# Altium schematic symbol library Nuvoton_NUC200_220 Series.SchLib: 14 symbols
Pins are listed as number, name and electrical type; pins without a type are passive.

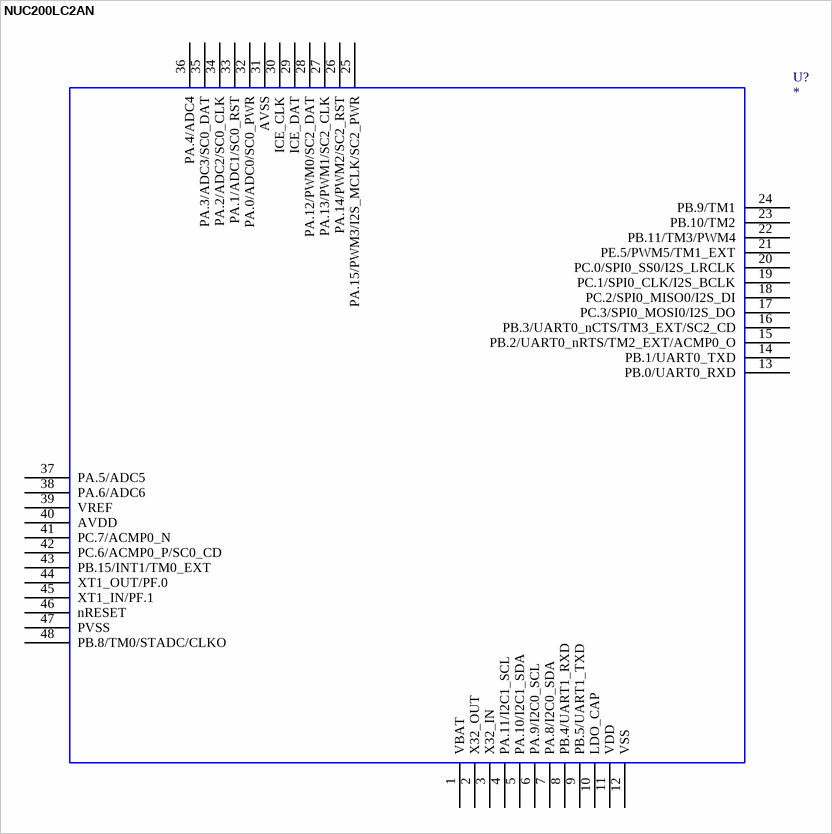
[diagram p0: symbol NUC200LC2AN]

## NUC200LC2AN
designator U?
NUC200LC2AN; OriginalSymbolOrigin: *; NUC200LC2AN: *; Value: *
footprint __MCU_LQFP_48__
pins: 1 VBAT, 2 X32_OUT, 3 X32_IN, 4 PA.11/I2C1_SCL, 5 PA.10/I2C1_SDA, 6 PA.9/I2C0_SCL, 7 PA.8/I2C0_SDA, 8 PB.4/UART1_RXD, 9 PB.5/UART1_TXD, 10 LDO_CAP, 11 VDD, 12 VSS, 13 PB.0/UART0_RXD, 14 PB.1/UART0_TXD, 15 PB.2/UART0_nRTS/TM2_EXT/ACMP0_O, 16 PB.3/UART0_nCTS/TM3_EXT/SC2_CD, 17 PC.3/SPI0_MOSI0/I2S_DO, 18 PC.2/SPI0_MISO0/I2S_DI, 19 PC.1/SPI0_CLK/I2S_BCLK, 20 PC.0/SPI0_SS0/I2S_LRCLK, 21 PE.5/PWM5/TM1_EXT, 22 PB.11/TM3/PWM4, 23 PB.10/TM2, 24 PB.9/TM1, 25 PA.15/PWM3/I2S_MCLK/SC2_PWR, 26 PA.14/PWM2/SC2_RST, 27 PA.13/PWM1/SC2_CLK, 28 PA.12/PWM0/SC2_DAT, 29 ICE_DAT, 30 ICE_CLK, 31 AVSS, 32 PA.0/ADC0/SC0_PWR, 33 PA.1/ADC1/SC0_RST, 34 PA.2/ADC2/SC0_CLK, 35 PA.3/ADC3/SC0_DAT, 36 PA.4/ADC4, 37 PA.5/ADC5, 38 PA.6/ADC6, 39 VREF, 40 AVDD, 41 PC.7/ACMP0_N, 42 PC.6/ACMP0_P/SC0_CD, 43 PB.15/INT1/TM0_EXT, 44 XT1_OUT/PF.0, 45 XT1_IN/PF.1, 46 nRESET, 47 PVSS, 48 PB.8/TM0/STADC/CLKO
2 alternate drawings of the same symbol

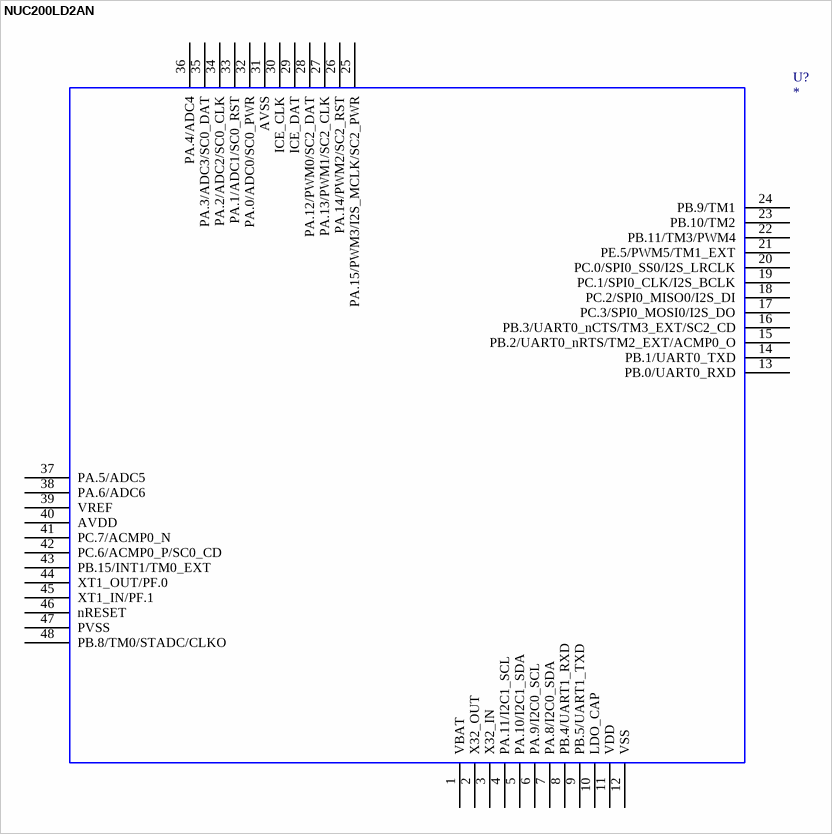
[diagram p1: symbol NUC200LD2AN]

## NUC200LD2AN
designator U?
NUC200LD2AN; OriginalSymbolOrigin: *; NUC200LD2AN: *; Value: *
footprint __MCU_LQFP_48__
pins: 1 VBAT, 2 X32_OUT, 3 X32_IN, 4 PA.11/I2C1_SCL, 5 PA.10/I2C1_SDA, 6 PA.9/I2C0_SCL, 7 PA.8/I2C0_SDA, 8 PB.4/UART1_RXD, 9 PB.5/UART1_TXD, 10 LDO_CAP, 11 VDD, 12 VSS, 13 PB.0/UART0_RXD, 14 PB.1/UART0_TXD, 15 PB.2/UART0_nRTS/TM2_EXT/ACMP0_O, 16 PB.3/UART0_nCTS/TM3_EXT/SC2_CD, 17 PC.3/SPI0_MOSI0/I2S_DO, 18 PC.2/SPI0_MISO0/I2S_DI, 19 PC.1/SPI0_CLK/I2S_BCLK, 20 PC.0/SPI0_SS0/I2S_LRCLK, 21 PE.5/PWM5/TM1_EXT, 22 PB.11/TM3/PWM4, 23 PB.10/TM2, 24 PB.9/TM1, 25 PA.15/PWM3/I2S_MCLK/SC2_PWR, 26 PA.14/PWM2/SC2_RST, 27 PA.13/PWM1/SC2_CLK, 28 PA.12/PWM0/SC2_DAT, 29 ICE_DAT, 30 ICE_CLK, 31 AVSS, 32 PA.0/ADC0/SC0_PWR, 33 PA.1/ADC1/SC0_RST, 34 PA.2/ADC2/SC0_CLK, 35 PA.3/ADC3/SC0_DAT, 36 PA.4/ADC4, 37 PA.5/ADC5, 38 PA.6/ADC6, 39 VREF, 40 AVDD, 41 PC.7/ACMP0_N, 42 PC.6/ACMP0_P/SC0_CD, 43 PB.15/INT1/TM0_EXT, 44 XT1_OUT/PF.0, 45 XT1_IN/PF.1, 46 nRESET, 47 PVSS, 48 PB.8/TM0/STADC/CLKO
2 alternate drawings of the same symbol

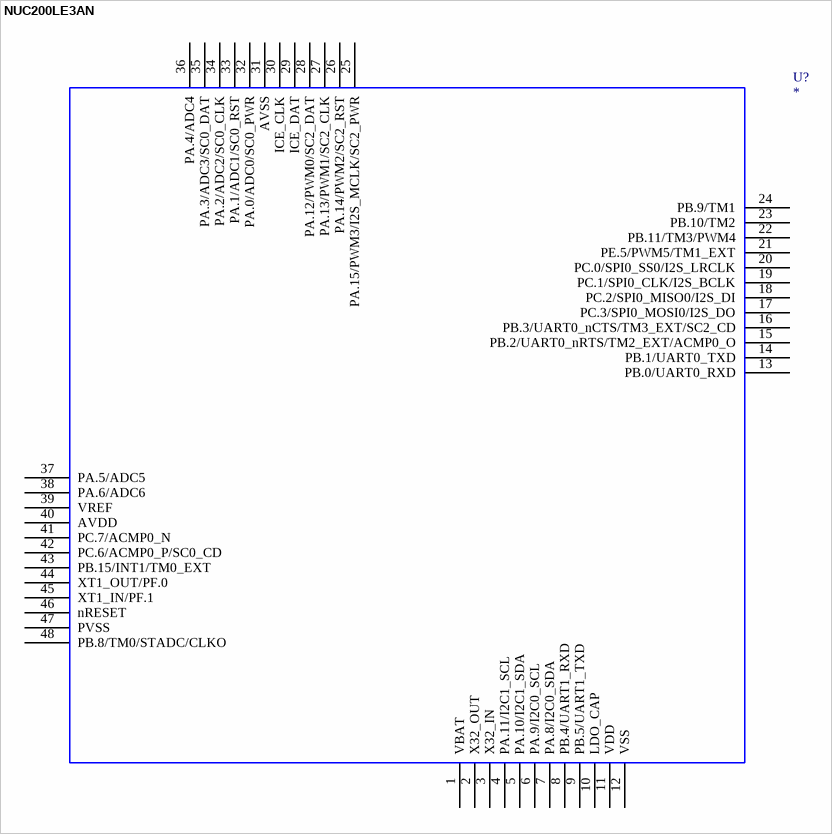
[diagram p2: symbol NUC200LE3AN]

## NUC200LE3AN
designator U?
NUC200LE3AN; OriginalSymbolOrigin: *; NUC200LE3AN: *; Value: *
footprint __MCU_LQFP_48__
pins: 1 VBAT, 2 X32_OUT, 3 X32_IN, 4 PA.11/I2C1_SCL, 5 PA.10/I2C1_SDA, 6 PA.9/I2C0_SCL, 7 PA.8/I2C0_SDA, 8 PB.4/UART1_RXD, 9 PB.5/UART1_TXD, 10 LDO_CAP, 11 VDD, 12 VSS, 13 PB.0/UART0_RXD, 14 PB.1/UART0_TXD, 15 PB.2/UART0_nRTS/TM2_EXT/ACMP0_O, 16 PB.3/UART0_nCTS/TM3_EXT/SC2_CD, 17 PC.3/SPI0_MOSI0/I2S_DO, 18 PC.2/SPI0_MISO0/I2S_DI, 19 PC.1/SPI0_CLK/I2S_BCLK, 20 PC.0/SPI0_SS0/I2S_LRCLK, 21 PE.5/PWM5/TM1_EXT, 22 PB.11/TM3/PWM4, 23 PB.10/TM2, 24 PB.9/TM1, 25 PA.15/PWM3/I2S_MCLK/SC2_PWR, 26 PA.14/PWM2/SC2_RST, 27 PA.13/PWM1/SC2_CLK, 28 PA.12/PWM0/SC2_DAT, 29 ICE_DAT, 30 ICE_CLK, 31 AVSS, 32 PA.0/ADC0/SC0_PWR, 33 PA.1/ADC1/SC0_RST, 34 PA.2/ADC2/SC0_CLK, 35 PA.3/ADC3/SC0_DAT, 36 PA.4/ADC4, 37 PA.5/ADC5, 38 PA.6/ADC6, 39 VREF, 40 AVDD, 41 PC.7/ACMP0_N, 42 PC.6/ACMP0_P/SC0_CD, 43 PB.15/INT1/TM0_EXT, 44 XT1_OUT/PF.0, 45 XT1_IN/PF.1, 46 nRESET, 47 PVSS, 48 PB.8/TM0/STADC/CLKO
2 alternate drawings of the same symbol

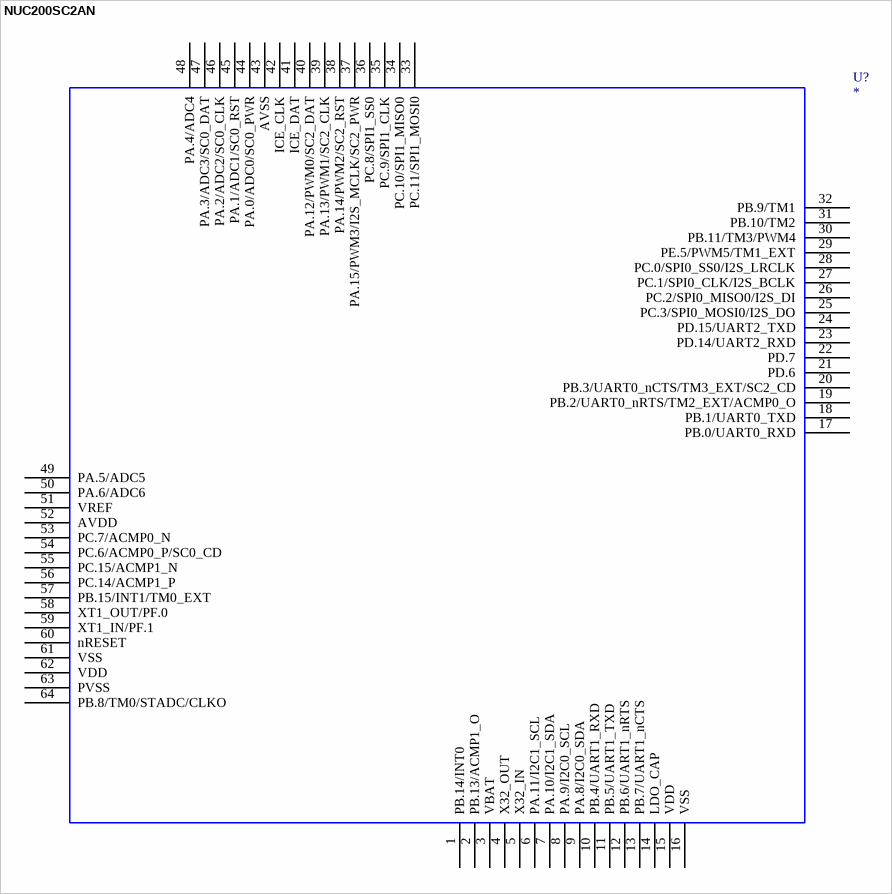
[diagram p3: symbol NUC200SC2AN]

## NUC200SC2AN
designator U?
NUC200SC2AN; OriginalSymbolOrigin: *; NUC200SC2AN: *; Value: *
footprint __MCU_LQFP_64_7x7__
pins: 1 PB.14/INT0, 2 PB.13/ACMP1_O, 3 VBAT, 4 X32_OUT, 5 X32_IN, 6 PA.11/I2C1_SCL, 7 PA.10/I2C1_SDA, 8 PA.9/I2C0_SCL, 9 PA.8/I2C0_SDA, 10 PB.4/UART1_RXD, 11 PB.5/UART1_TXD, 12 PB.6/UART1_nRTS, 13 PB.7/UART1_nCTS, 14 LDO_CAP, 15 VDD, 16 VSS, 17 PB.0/UART0_RXD, 18 PB.1/UART0_TXD, 19 PB.2/UART0_nRTS/TM2_EXT/ACMP0_O, 20 PB.3/UART0_nCTS/TM3_EXT/SC2_CD, 21 PD.6, 22 PD.7, 23 PD.14/UART2_RXD, 24 PD.15/UART2_TXD, 25 PC.3/SPI0_MOSI0/I2S_DO, 26 PC.2/SPI0_MISO0/I2S_DI, 27 PC.1/SPI0_CLK/I2S_BCLK, 28 PC.0/SPI0_SS0/I2S_LRCLK, 29 PE.5/PWM5/TM1_EXT, 30 PB.11/TM3/PWM4, 31 PB.10/TM2, 32 PB.9/TM1, 33 PC.11/SPI1_MOSI0, 34 PC.10/SPI1_MISO0, 35 PC.9/SPI1_CLK, 36 PC.8/SPI1_SS0, 37 PA.15/PWM3/I2S_MCLK/SC2_PWR, 38 PA.14/PWM2/SC2_RST, 39 PA.13/PWM1/SC2_CLK, 40 PA.12/PWM0/SC2_DAT, 41 ICE_DAT, 42 ICE_CLK, 43 AVSS, 44 PA.0/ADC0/SC0_PWR, 45 PA.1/ADC1/SC0_RST, 46 PA.2/ADC2/SC0_CLK, 47 PA.3/ADC3/SC0_DAT, 48 PA.4/ADC4, 49 PA.5/ADC5, 50 PA.6/ADC6, 51 VREF, 52 AVDD, 53 PC.7/ACMP0_N, 54 PC.6/ACMP0_P/SC0_CD, 55 PC.15/ACMP1_N, 56 PC.14/ACMP1_P, 57 PB.15/INT1/TM0_EXT, 58 XT1_OUT/PF.0, 59 XT1_IN/PF.1, 60 nRESET, 61 VSS, 62 VDD, 63 PVSS, 64 PB.8/TM0/STADC/CLKO
2 alternate drawings of the same symbol

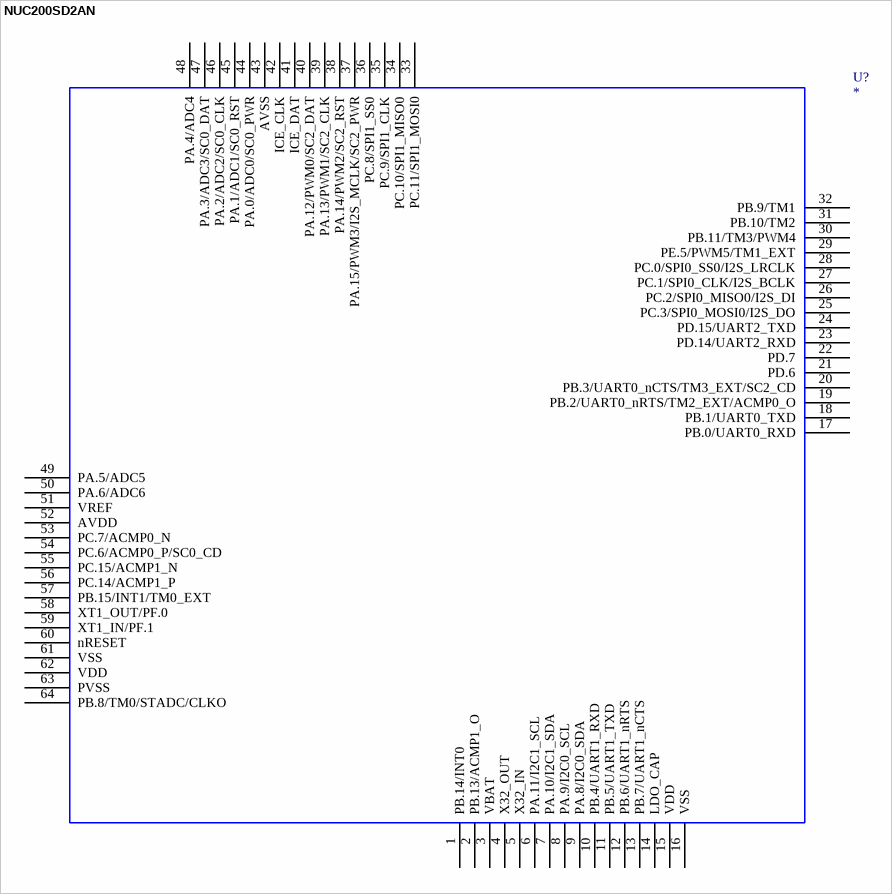
[diagram p4: symbol NUC200SD2AN]

## NUC200SD2AN
designator U?
NUC200SD2AN; OriginalSymbolOrigin: *; NUC200SD2AN: *; Value: *
footprint __MCU_LQFP_64_7x7__
pins: 1 PB.14/INT0, 2 PB.13/ACMP1_O, 3 VBAT, 4 X32_OUT, 5 X32_IN, 6 PA.11/I2C1_SCL, 7 PA.10/I2C1_SDA, 8 PA.9/I2C0_SCL, 9 PA.8/I2C0_SDA, 10 PB.4/UART1_RXD, 11 PB.5/UART1_TXD, 12 PB.6/UART1_nRTS, 13 PB.7/UART1_nCTS, 14 LDO_CAP, 15 VDD, 16 VSS, 17 PB.0/UART0_RXD, 18 PB.1/UART0_TXD, 19 PB.2/UART0_nRTS/TM2_EXT/ACMP0_O, 20 PB.3/UART0_nCTS/TM3_EXT/SC2_CD, 21 PD.6, 22 PD.7, 23 PD.14/UART2_RXD, 24 PD.15/UART2_TXD, 25 PC.3/SPI0_MOSI0/I2S_DO, 26 PC.2/SPI0_MISO0/I2S_DI, 27 PC.1/SPI0_CLK/I2S_BCLK, 28 PC.0/SPI0_SS0/I2S_LRCLK, 29 PE.5/PWM5/TM1_EXT, 30 PB.11/TM3/PWM4, 31 PB.10/TM2, 32 PB.9/TM1, 33 PC.11/SPI1_MOSI0, 34 PC.10/SPI1_MISO0, 35 PC.9/SPI1_CLK, 36 PC.8/SPI1_SS0, 37 PA.15/PWM3/I2S_MCLK/SC2_PWR, 38 PA.14/PWM2/SC2_RST, 39 PA.13/PWM1/SC2_CLK, 40 PA.12/PWM0/SC2_DAT, 41 ICE_DAT, 42 ICE_CLK, 43 AVSS, 44 PA.0/ADC0/SC0_PWR, 45 PA.1/ADC1/SC0_RST, 46 PA.2/ADC2/SC0_CLK, 47 PA.3/ADC3/SC0_DAT, 48 PA.4/ADC4, 49 PA.5/ADC5, 50 PA.6/ADC6, 51 VREF, 52 AVDD, 53 PC.7/ACMP0_N, 54 PC.6/ACMP0_P/SC0_CD, 55 PC.15/ACMP1_N, 56 PC.14/ACMP1_P, 57 PB.15/INT1/TM0_EXT, 58 XT1_OUT/PF.0, 59 XT1_IN/PF.1, 60 nRESET, 61 VSS, 62 VDD, 63 PVSS, 64 PB.8/TM0/STADC/CLKO
2 alternate drawings of the same symbol

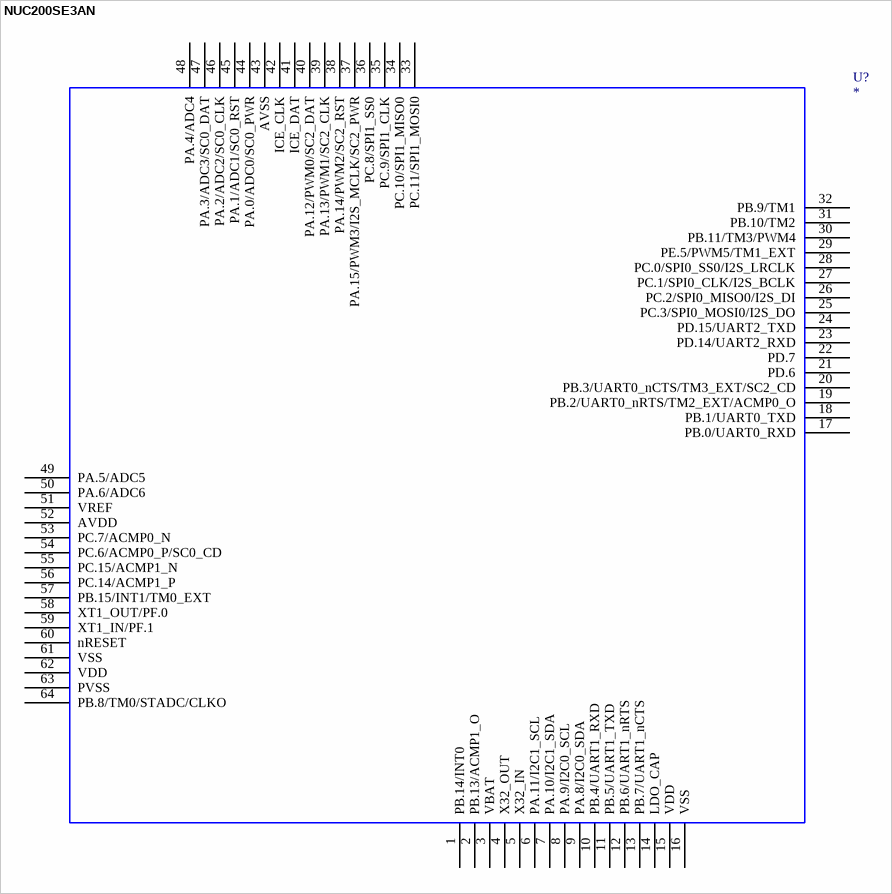
[diagram p5: symbol NUC200SE3AN]

## NUC200SE3AN
designator U?
NUC200SE3AN; OriginalSymbolOrigin: *; NUC200SE3AN: *; Value: *
footprint __MCU_LQFP_64_7x7__
pins: 1 PB.14/INT0, 2 PB.13/ACMP1_O, 3 VBAT, 4 X32_OUT, 5 X32_IN, 6 PA.11/I2C1_SCL, 7 PA.10/I2C1_SDA, 8 PA.9/I2C0_SCL, 9 PA.8/I2C0_SDA, 10 PB.4/UART1_RXD, 11 PB.5/UART1_TXD, 12 PB.6/UART1_nRTS, 13 PB.7/UART1_nCTS, 14 LDO_CAP, 15 VDD, 16 VSS, 17 PB.0/UART0_RXD, 18 PB.1/UART0_TXD, 19 PB.2/UART0_nRTS/TM2_EXT/ACMP0_O, 20 PB.3/UART0_nCTS/TM3_EXT/SC2_CD, 21 PD.6, 22 PD.7, 23 PD.14/UART2_RXD, 24 PD.15/UART2_TXD, 25 PC.3/SPI0_MOSI0/I2S_DO, 26 PC.2/SPI0_MISO0/I2S_DI, 27 PC.1/SPI0_CLK/I2S_BCLK, 28 PC.0/SPI0_SS0/I2S_LRCLK, 29 PE.5/PWM5/TM1_EXT, 30 PB.11/TM3/PWM4, 31 PB.10/TM2, 32 PB.9/TM1, 33 PC.11/SPI1_MOSI0, 34 PC.10/SPI1_MISO0, 35 PC.9/SPI1_CLK, 36 PC.8/SPI1_SS0, 37 PA.15/PWM3/I2S_MCLK/SC2_PWR, 38 PA.14/PWM2/SC2_RST, 39 PA.13/PWM1/SC2_CLK, 40 PA.12/PWM0/SC2_DAT, 41 ICE_DAT, 42 ICE_CLK, 43 AVSS, 44 PA.0/ADC0/SC0_PWR, 45 PA.1/ADC1/SC0_RST, 46 PA.2/ADC2/SC0_CLK, 47 PA.3/ADC3/SC0_DAT, 48 PA.4/ADC4, 49 PA.5/ADC5, 50 PA.6/ADC6, 51 VREF, 52 AVDD, 53 PC.7/ACMP0_N, 54 PC.6/ACMP0_P/SC0_CD, 55 PC.15/ACMP1_N, 56 PC.14/ACMP1_P, 57 PB.15/INT1/TM0_EXT, 58 XT1_OUT/PF.0, 59 XT1_IN/PF.1, 60 nRESET, 61 VSS, 62 VDD, 63 PVSS, 64 PB.8/TM0/STADC/CLKO
2 alternate drawings of the same symbol

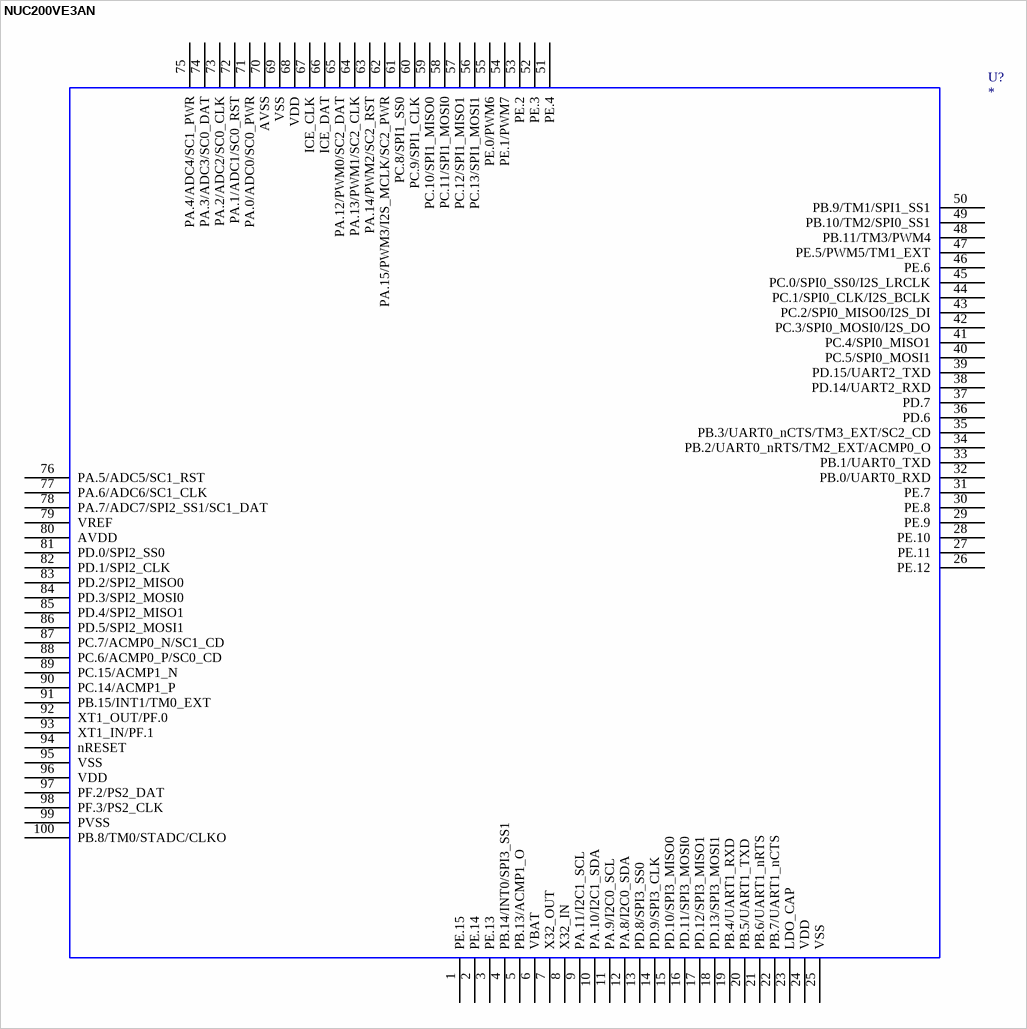
[diagram p6: symbol NUC200VE3AN]

## NUC200VE3AN
designator U?
NUC200VE3AN; OriginalSymbolOrigin: *; NUC200VE3AN: *; Value: *
footprint __MCU_LQFP_100__
pins: 1 PE.15, 2 PE.14, 3 PE.13, 4 PB.14/INT0/SPI3_SS1, 5 PB.13/ACMP1_O, 6 VBAT, 7 X32_OUT, 8 X32_IN, 9 PA.11/I2C1_SCL, 10 PA.10/I2C1_SDA, 11 PA.9/I2C0_SCL, 12 PA.8/I2C0_SDA, 13 PD.8/SPI3_SS0, 14 PD.9/SPI3_CLK, 15 PD.10/SPI3_MISO0, 16 PD.11/SPI3_MOSI0, 17 PD.12/SPI3_MISO1, 18 PD.13/SPI3_MOSI1, 19 PB.4/UART1_RXD, 20 PB.5/UART1_TXD, 21 PB.6/UART1_nRTS, 22 PB.7/UART1_nCTS, 23 LDO_CAP, 24 VDD, 25 VSS, 26 PE.12, 27 PE.11, 28 PE.10, 29 PE.9, 30 PE.8, 31 PE.7, 32 PB.0/UART0_RXD, 33 PB.1/UART0_TXD, 34 PB.2/UART0_nRTS/TM2_EXT/ACMP0_O, 35 PB.3/UART0_nCTS/TM3_EXT/SC2_CD, 36 PD.6, 37 PD.7, 38 PD.14/UART2_RXD, 39 PD.15/UART2_TXD, 40 PC.5/SPI0_MOSI1, 41 PC.4/SPI0_MISO1, 42 PC.3/SPI0_MOSI0/I2S_DO, 43 PC.2/SPI0_MISO0/I2S_DI, 44 PC.1/SPI0_CLK/I2S_BCLK, 45 PC.0/SPI0_SS0/I2S_LRCLK, 46 PE.6, 47 PE.5/PWM5/TM1_EXT, 48 PB.11/TM3/PWM4, 49 PB.10/TM2/SPI0_SS1, 50 PB.9/TM1/SPI1_SS1, 51 PE.4, 52 PE.3, 53 PE.2, 54 PE.1/PWM7, 55 PE.0/PWM6, 56 PC.13/SPI1_MOSI1, 57 PC.12/SPI1_MISO1, 58 PC.11/SPI1_MOSI0, 59 PC.10/SPI1_MISO0, 60 PC.9/SPI1_CLK, 61 PC.8/SPI1_SS0, 62 PA.15/PWM3/I2S_MCLK/SC2_PWR, 63 PA.14/PWM2/SC2_RST, 64 PA.13/PWM1/SC2_CLK, 65 PA.12/PWM0/SC2_DAT, 66 ICE_DAT, 67 ICE_CLK, 68 VDD, 69 VSS, 70 AVSS, 71 PA.0/ADC0/SC0_PWR, 72 PA.1/ADC1/SC0_RST, 73 PA.2/ADC2/SC0_CLK, 74 PA.3/ADC3/SC0_DAT, 75 PA.4/ADC4/SC1_PWR, 76 PA.5/ADC5/SC1_RST, 77 PA.6/ADC6/SC1_CLK, 78 PA.7/ADC7/SPI2_SS1/SC1_DAT, 79 VREF, 80 AVDD, 81 PD.0/SPI2_SS0, 82 PD.1/SPI2_CLK, 83 PD.2/SPI2_MISO0, 84 PD.3/SPI2_MOSI0, 85 PD.4/SPI2_MISO1, 86 PD.5/SPI2_MOSI1, 87 PC.7/ACMP0_N/SC1_CD, 88 PC.6/ACMP0_P/SC0_CD, 89 PC.15/ACMP1_N, 90 PC.14/ACMP1_P, 91 PB.15/INT1/TM0_EXT, 92 XT1_OUT/PF.0, 93 XT1_IN/PF.1, 94 nRESET, 95 VSS, 96 VDD, 97 PF.2/PS2_DAT, 98 PF.3/PS2_CLK, 99 PVSS, 100 PB.8/TM0/STADC/CLKO
2 alternate drawings of the same symbol

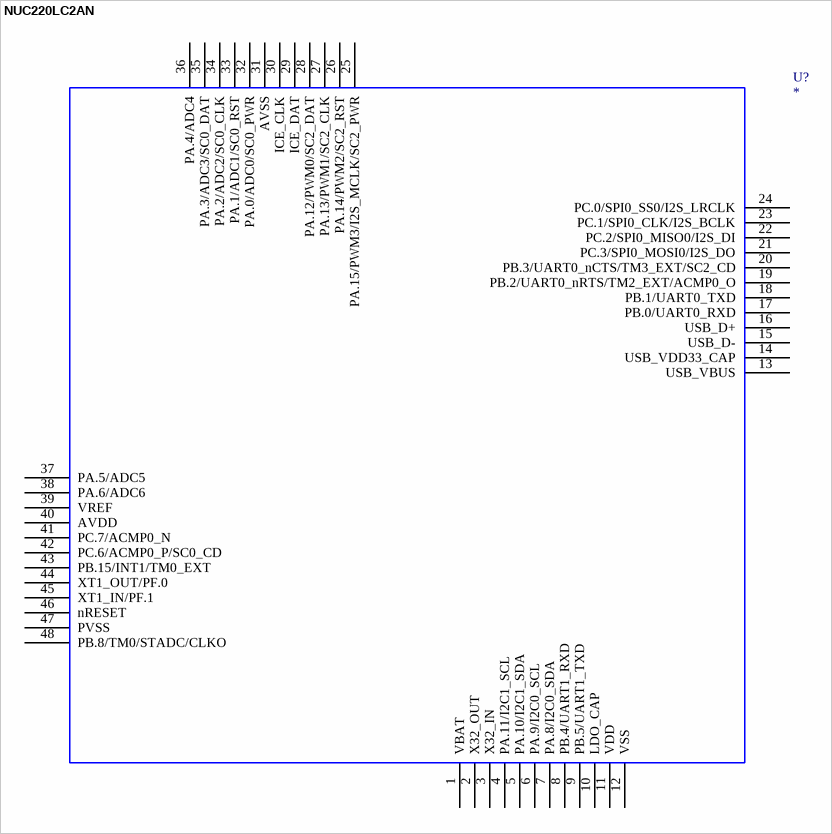
[diagram p7: symbol NUC220LC2AN]

## NUC220LC2AN
designator U?
NUC220LC2AN; OriginalSymbolOrigin: *; NUC220LC2AN: *; Value: *
footprint __MCU_LQFP_48__
pins: 1 VBAT, 2 X32_OUT, 3 X32_IN, 4 PA.11/I2C1_SCL, 5 PA.10/I2C1_SDA, 6 PA.9/I2C0_SCL, 7 PA.8/I2C0_SDA, 8 PB.4/UART1_RXD, 9 PB.5/UART1_TXD, 10 LDO_CAP, 11 VDD, 12 VSS, 13 USB_VBUS, 14 USB_VDD33_CAP, 15 USB_D-, 16 USB_D+, 17 PB.0/UART0_RXD, 18 PB.1/UART0_TXD, 19 PB.2/UART0_nRTS/TM2_EXT/ACMP0_O, 20 PB.3/UART0_nCTS/TM3_EXT/SC2_CD, 21 PC.3/SPI0_MOSI0/I2S_DO, 22 PC.2/SPI0_MISO0/I2S_DI, 23 PC.1/SPI0_CLK/I2S_BCLK, 24 PC.0/SPI0_SS0/I2S_LRCLK, 25 PA.15/PWM3/I2S_MCLK/SC2_PWR, 26 PA.14/PWM2/SC2_RST, 27 PA.13/PWM1/SC2_CLK, 28 PA.12/PWM0/SC2_DAT, 29 ICE_DAT, 30 ICE_CLK, 31 AVSS, 32 PA.0/ADC0/SC0_PWR, 33 PA.1/ADC1/SC0_RST, 34 PA.2/ADC2/SC0_CLK, 35 PA.3/ADC3/SC0_DAT, 36 PA.4/ADC4, 37 PA.5/ADC5, 38 PA.6/ADC6, 39 VREF, 40 AVDD, 41 PC.7/ACMP0_N, 42 PC.6/ACMP0_P/SC0_CD, 43 PB.15/INT1/TM0_EXT, 44 XT1_OUT/PF.0, 45 XT1_IN/PF.1, 46 nRESET, 47 PVSS, 48 PB.8/TM0/STADC/CLKO
2 alternate drawings of the same symbol

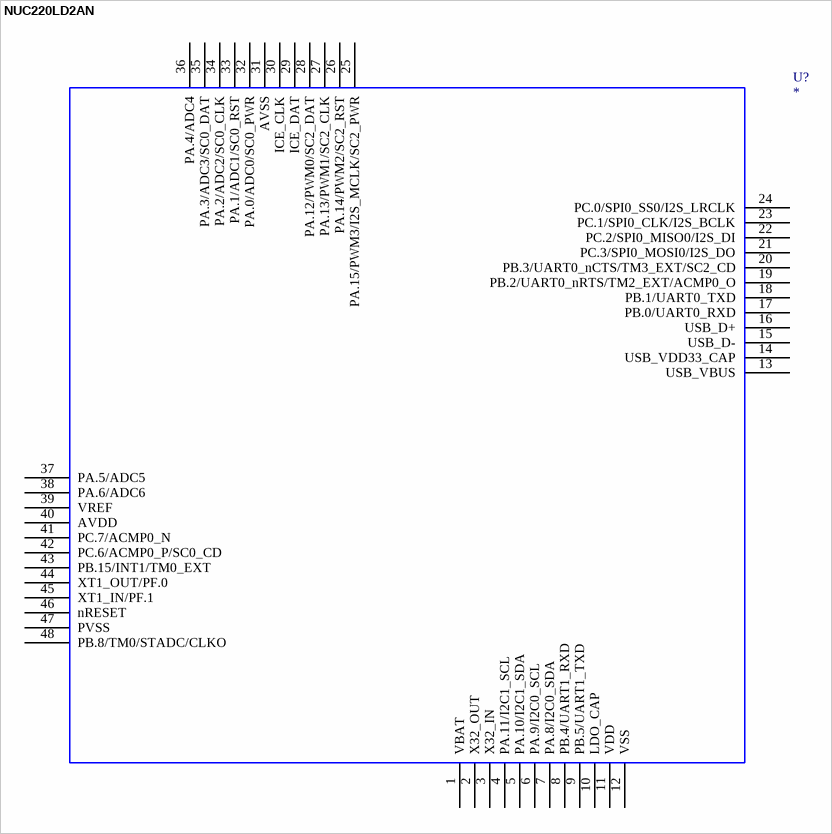
[diagram p8: symbol NUC220LD2AN]

## NUC220LD2AN
designator U?
NUC220LD2AN; OriginalSymbolOrigin: *; NUC220LD2AN: *; Value: *
footprint __MCU_LQFP_48__
pins: 1 VBAT, 2 X32_OUT, 3 X32_IN, 4 PA.11/I2C1_SCL, 5 PA.10/I2C1_SDA, 6 PA.9/I2C0_SCL, 7 PA.8/I2C0_SDA, 8 PB.4/UART1_RXD, 9 PB.5/UART1_TXD, 10 LDO_CAP, 11 VDD, 12 VSS, 13 USB_VBUS, 14 USB_VDD33_CAP, 15 USB_D-, 16 USB_D+, 17 PB.0/UART0_RXD, 18 PB.1/UART0_TXD, 19 PB.2/UART0_nRTS/TM2_EXT/ACMP0_O, 20 PB.3/UART0_nCTS/TM3_EXT/SC2_CD, 21 PC.3/SPI0_MOSI0/I2S_DO, 22 PC.2/SPI0_MISO0/I2S_DI, 23 PC.1/SPI0_CLK/I2S_BCLK, 24 PC.0/SPI0_SS0/I2S_LRCLK, 25 PA.15/PWM3/I2S_MCLK/SC2_PWR, 26 PA.14/PWM2/SC2_RST, 27 PA.13/PWM1/SC2_CLK, 28 PA.12/PWM0/SC2_DAT, 29 ICE_DAT, 30 ICE_CLK, 31 AVSS, 32 PA.0/ADC0/SC0_PWR, 33 PA.1/ADC1/SC0_RST, 34 PA.2/ADC2/SC0_CLK, 35 PA.3/ADC3/SC0_DAT, 36 PA.4/ADC4, 37 PA.5/ADC5, 38 PA.6/ADC6, 39 VREF, 40 AVDD, 41 PC.7/ACMP0_N, 42 PC.6/ACMP0_P/SC0_CD, 43 PB.15/INT1/TM0_EXT, 44 XT1_OUT/PF.0, 45 XT1_IN/PF.1, 46 nRESET, 47 PVSS, 48 PB.8/TM0/STADC/CLKO
2 alternate drawings of the same symbol

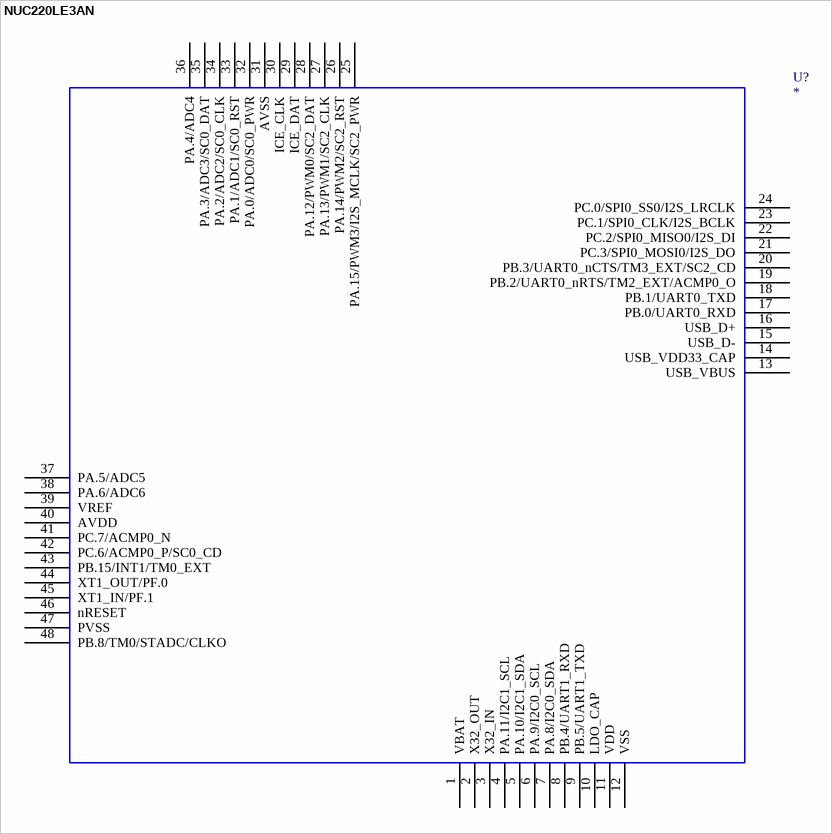
[diagram p9: symbol NUC220LE3AN]

## NUC220LE3AN
designator U?
NUC220LE3AN; OriginalSymbolOrigin: *; NUC220LE3AN: *; Value: *
footprint __MCU_LQFP_48__
pins: 1 VBAT, 2 X32_OUT, 3 X32_IN, 4 PA.11/I2C1_SCL, 5 PA.10/I2C1_SDA, 6 PA.9/I2C0_SCL, 7 PA.8/I2C0_SDA, 8 PB.4/UART1_RXD, 9 PB.5/UART1_TXD, 10 LDO_CAP, 11 VDD, 12 VSS, 13 USB_VBUS, 14 USB_VDD33_CAP, 15 USB_D-, 16 USB_D+, 17 PB.0/UART0_RXD, 18 PB.1/UART0_TXD, 19 PB.2/UART0_nRTS/TM2_EXT/ACMP0_O, 20 PB.3/UART0_nCTS/TM3_EXT/SC2_CD, 21 PC.3/SPI0_MOSI0/I2S_DO, 22 PC.2/SPI0_MISO0/I2S_DI, 23 PC.1/SPI0_CLK/I2S_BCLK, 24 PC.0/SPI0_SS0/I2S_LRCLK, 25 PA.15/PWM3/I2S_MCLK/SC2_PWR, 26 PA.14/PWM2/SC2_RST, 27 PA.13/PWM1/SC2_CLK, 28 PA.12/PWM0/SC2_DAT, 29 ICE_DAT, 30 ICE_CLK, 31 AVSS, 32 PA.0/ADC0/SC0_PWR, 33 PA.1/ADC1/SC0_RST, 34 PA.2/ADC2/SC0_CLK, 35 PA.3/ADC3/SC0_DAT, 36 PA.4/ADC4, 37 PA.5/ADC5, 38 PA.6/ADC6, 39 VREF, 40 AVDD, 41 PC.7/ACMP0_N, 42 PC.6/ACMP0_P/SC0_CD, 43 PB.15/INT1/TM0_EXT, 44 XT1_OUT/PF.0, 45 XT1_IN/PF.1, 46 nRESET, 47 PVSS, 48 PB.8/TM0/STADC/CLKO
2 alternate drawings of the same symbol

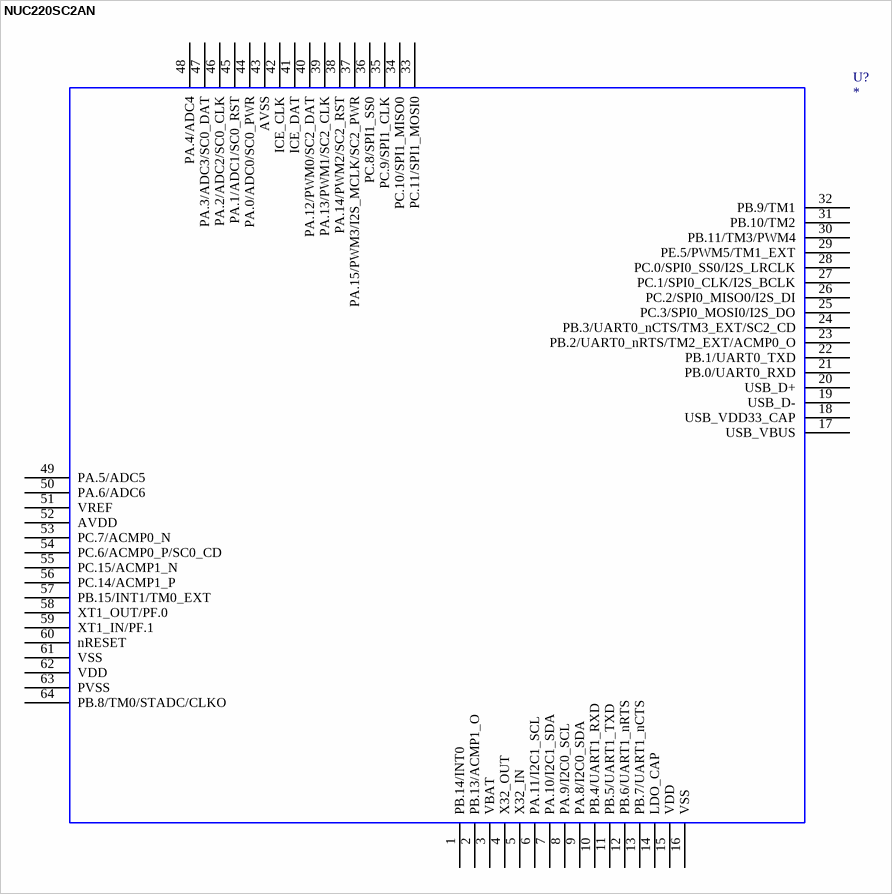
[diagram p10: symbol NUC220SC2AN]

## NUC220SC2AN
designator U?
NUC220SC2AN; OriginalSymbolOrigin: *; NUC220SC2AN: *; Value: *
footprint __MCU_LQFP_64_7x7__
pins: 1 PB.14/INT0, 2 PB.13/ACMP1_O, 3 VBAT, 4 X32_OUT, 5 X32_IN, 6 PA.11/I2C1_SCL, 7 PA.10/I2C1_SDA, 8 PA.9/I2C0_SCL, 9 PA.8/I2C0_SDA, 10 PB.4/UART1_RXD, 11 PB.5/UART1_TXD, 12 PB.6/UART1_nRTS, 13 PB.7/UART1_nCTS, 14 LDO_CAP, 15 VDD, 16 VSS, 17 USB_VBUS, 18 USB_VDD33_CAP, 19 USB_D-, 20 USB_D+, 21 PB.0/UART0_RXD, 22 PB.1/UART0_TXD, 23 PB.2/UART0_nRTS/TM2_EXT/ACMP0_O, 24 PB.3/UART0_nCTS/TM3_EXT/SC2_CD, 25 PC.3/SPI0_MOSI0/I2S_DO, 26 PC.2/SPI0_MISO0/I2S_DI, 27 PC.1/SPI0_CLK/I2S_BCLK, 28 PC.0/SPI0_SS0/I2S_LRCLK, 29 PE.5/PWM5/TM1_EXT, 30 PB.11/TM3/PWM4, 31 PB.10/TM2, 32 PB.9/TM1, 33 PC.11/SPI1_MOSI0, 34 PC.10/SPI1_MISO0, 35 PC.9/SPI1_CLK, 36 PC.8/SPI1_SS0, 37 PA.15/PWM3/I2S_MCLK/SC2_PWR, 38 PA.14/PWM2/SC2_RST, 39 PA.13/PWM1/SC2_CLK, 40 PA.12/PWM0/SC2_DAT, 41 ICE_DAT, 42 ICE_CLK, 43 AVSS, 44 PA.0/ADC0/SC0_PWR, 45 PA.1/ADC1/SC0_RST, 46 PA.2/ADC2/SC0_CLK, 47 PA.3/ADC3/SC0_DAT, 48 PA.4/ADC4, 49 PA.5/ADC5, 50 PA.6/ADC6, 51 VREF, 52 AVDD, 53 PC.7/ACMP0_N, 54 PC.6/ACMP0_P/SC0_CD, 55 PC.15/ACMP1_N, 56 PC.14/ACMP1_P, 57 PB.15/INT1/TM0_EXT, 58 XT1_OUT/PF.0, 59 XT1_IN/PF.1, 60 nRESET, 61 VSS, 62 VDD, 63 PVSS, 64 PB.8/TM0/STADC/CLKO
2 alternate drawings of the same symbol

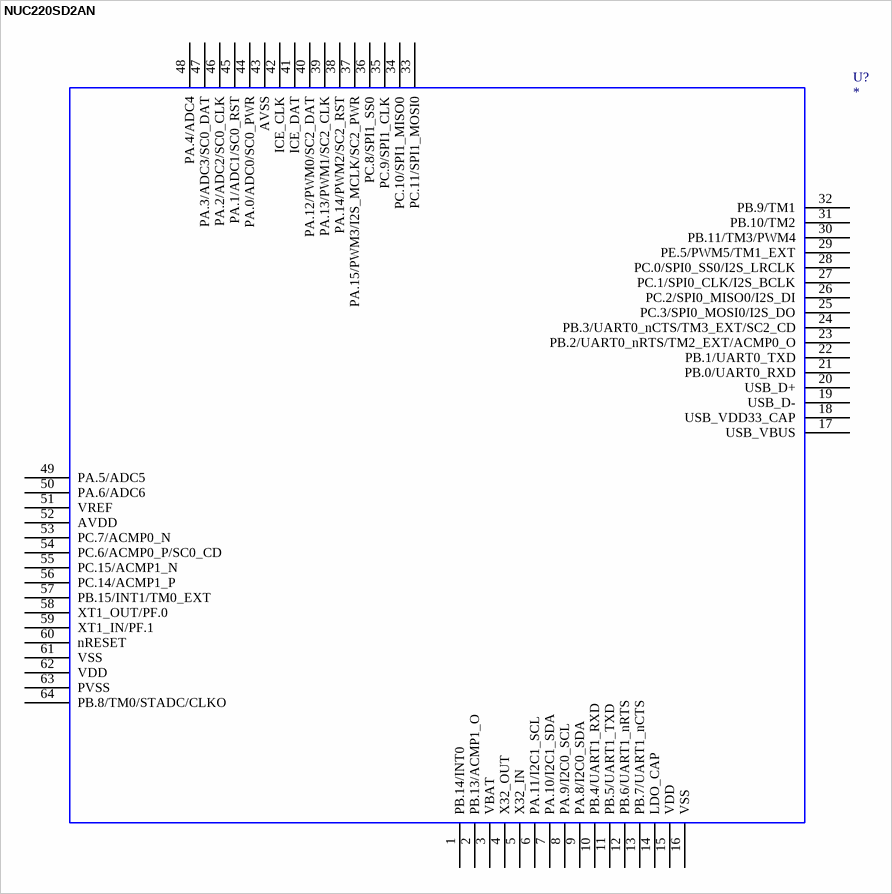
[diagram p11: symbol NUC220SD2AN]

## NUC220SD2AN
designator U?
NUC220SD2AN; OriginalSymbolOrigin: *; NUC220SD2AN: *; Value: *
footprint __MCU_LQFP_64_7x7__
pins: 1 PB.14/INT0, 2 PB.13/ACMP1_O, 3 VBAT, 4 X32_OUT, 5 X32_IN, 6 PA.11/I2C1_SCL, 7 PA.10/I2C1_SDA, 8 PA.9/I2C0_SCL, 9 PA.8/I2C0_SDA, 10 PB.4/UART1_RXD, 11 PB.5/UART1_TXD, 12 PB.6/UART1_nRTS, 13 PB.7/UART1_nCTS, 14 LDO_CAP, 15 VDD, 16 VSS, 17 USB_VBUS, 18 USB_VDD33_CAP, 19 USB_D-, 20 USB_D+, 21 PB.0/UART0_RXD, 22 PB.1/UART0_TXD, 23 PB.2/UART0_nRTS/TM2_EXT/ACMP0_O, 24 PB.3/UART0_nCTS/TM3_EXT/SC2_CD, 25 PC.3/SPI0_MOSI0/I2S_DO, 26 PC.2/SPI0_MISO0/I2S_DI, 27 PC.1/SPI0_CLK/I2S_BCLK, 28 PC.0/SPI0_SS0/I2S_LRCLK, 29 PE.5/PWM5/TM1_EXT, 30 PB.11/TM3/PWM4, 31 PB.10/TM2, 32 PB.9/TM1, 33 PC.11/SPI1_MOSI0, 34 PC.10/SPI1_MISO0, 35 PC.9/SPI1_CLK, 36 PC.8/SPI1_SS0, 37 PA.15/PWM3/I2S_MCLK/SC2_PWR, 38 PA.14/PWM2/SC2_RST, 39 PA.13/PWM1/SC2_CLK, 40 PA.12/PWM0/SC2_DAT, 41 ICE_DAT, 42 ICE_CLK, 43 AVSS, 44 PA.0/ADC0/SC0_PWR, 45 PA.1/ADC1/SC0_RST, 46 PA.2/ADC2/SC0_CLK, 47 PA.3/ADC3/SC0_DAT, 48 PA.4/ADC4, 49 PA.5/ADC5, 50 PA.6/ADC6, 51 VREF, 52 AVDD, 53 PC.7/ACMP0_N, 54 PC.6/ACMP0_P/SC0_CD, 55 PC.15/ACMP1_N, 56 PC.14/ACMP1_P, 57 PB.15/INT1/TM0_EXT, 58 XT1_OUT/PF.0, 59 XT1_IN/PF.1, 60 nRESET, 61 VSS, 62 VDD, 63 PVSS, 64 PB.8/TM0/STADC/CLKO
2 alternate drawings of the same symbol

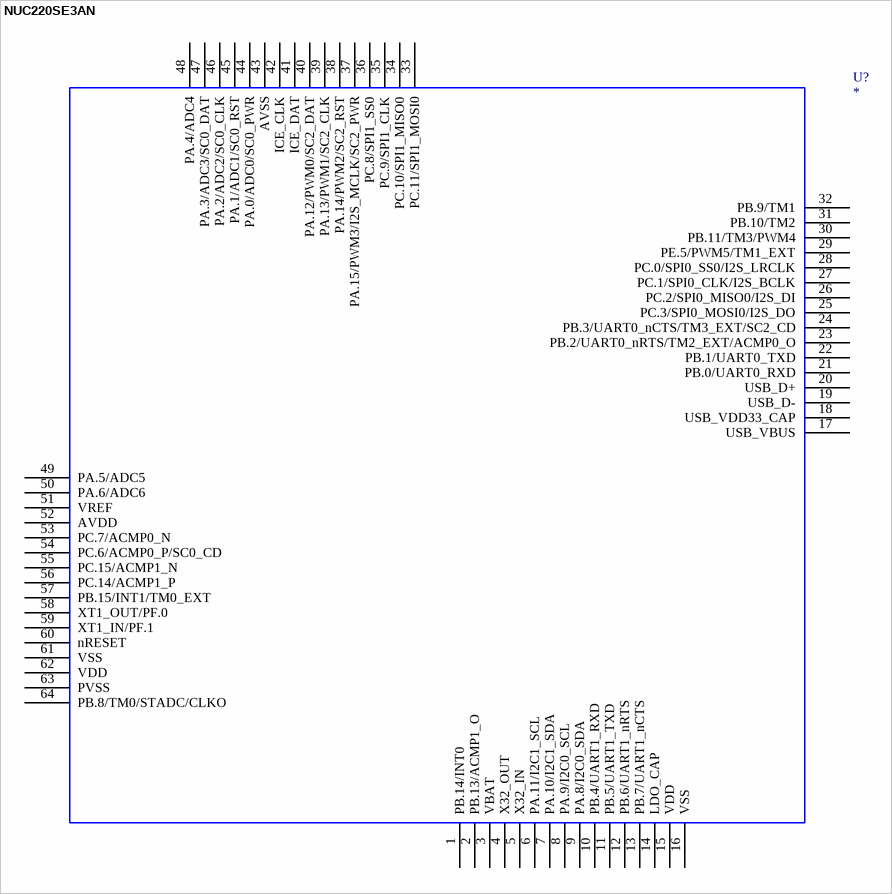
[diagram p12: symbol NUC220SE3AN]

## NUC220SE3AN
designator U?
NUC220SE3AN; OriginalSymbolOrigin: *; NUC220SE3AN: *; Value: *
footprint __MCU_LQFP_64_7x7__
pins: 1 PB.14/INT0, 2 PB.13/ACMP1_O, 3 VBAT, 4 X32_OUT, 5 X32_IN, 6 PA.11/I2C1_SCL, 7 PA.10/I2C1_SDA, 8 PA.9/I2C0_SCL, 9 PA.8/I2C0_SDA, 10 PB.4/UART1_RXD, 11 PB.5/UART1_TXD, 12 PB.6/UART1_nRTS, 13 PB.7/UART1_nCTS, 14 LDO_CAP, 15 VDD, 16 VSS, 17 USB_VBUS, 18 USB_VDD33_CAP, 19 USB_D-, 20 USB_D+, 21 PB.0/UART0_RXD, 22 PB.1/UART0_TXD, 23 PB.2/UART0_nRTS/TM2_EXT/ACMP0_O, 24 PB.3/UART0_nCTS/TM3_EXT/SC2_CD, 25 PC.3/SPI0_MOSI0/I2S_DO, 26 PC.2/SPI0_MISO0/I2S_DI, 27 PC.1/SPI0_CLK/I2S_BCLK, 28 PC.0/SPI0_SS0/I2S_LRCLK, 29 PE.5/PWM5/TM1_EXT, 30 PB.11/TM3/PWM4, 31 PB.10/TM2, 32 PB.9/TM1, 33 PC.11/SPI1_MOSI0, 34 PC.10/SPI1_MISO0, 35 PC.9/SPI1_CLK, 36 PC.8/SPI1_SS0, 37 PA.15/PWM3/I2S_MCLK/SC2_PWR, 38 PA.14/PWM2/SC2_RST, 39 PA.13/PWM1/SC2_CLK, 40 PA.12/PWM0/SC2_DAT, 41 ICE_DAT, 42 ICE_CLK, 43 AVSS, 44 PA.0/ADC0/SC0_PWR, 45 PA.1/ADC1/SC0_RST, 46 PA.2/ADC2/SC0_CLK, 47 PA.3/ADC3/SC0_DAT, 48 PA.4/ADC4, 49 PA.5/ADC5, 50 PA.6/ADC6, 51 VREF, 52 AVDD, 53 PC.7/ACMP0_N, 54 PC.6/ACMP0_P/SC0_CD, 55 PC.15/ACMP1_N, 56 PC.14/ACMP1_P, 57 PB.15/INT1/TM0_EXT, 58 XT1_OUT/PF.0, 59 XT1_IN/PF.1, 60 nRESET, 61 VSS, 62 VDD, 63 PVSS, 64 PB.8/TM0/STADC/CLKO
2 alternate drawings of the same symbol

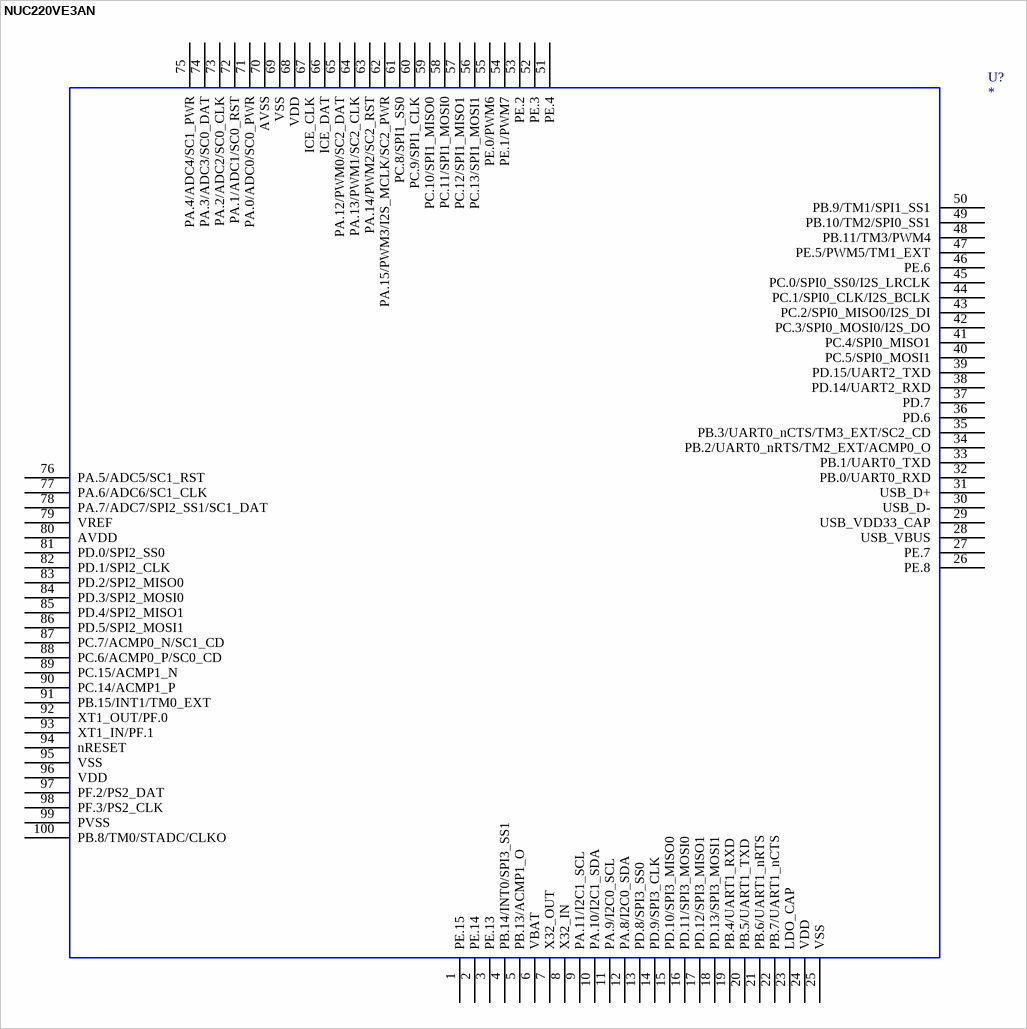
[diagram p13: symbol NUC220VE3AN]

## NUC220VE3AN
designator U?
NUC220VE3AN; OriginalSymbolOrigin: *; NUC220VE3AN: *; Value: *
footprint __MCU_LQFP_100__
pins: 1 PE.15, 2 PE.14, 3 PE.13, 4 PB.14/INT0/SPI3_SS1, 5 PB.13/ACMP1_O, 6 VBAT, 7 X32_OUT, 8 X32_IN, 9 PA.11/I2C1_SCL, 10 PA.10/I2C1_SDA, 11 PA.9/I2C0_SCL, 12 PA.8/I2C0_SDA, 13 PD.8/SPI3_SS0, 14 PD.9/SPI3_CLK, 15 PD.10/SPI3_MISO0, 16 PD.11/SPI3_MOSI0, 17 PD.12/SPI3_MISO1, 18 PD.13/SPI3_MOSI1, 19 PB.4/UART1_RXD, 20 PB.5/UART1_TXD, 21 PB.6/UART1_nRTS, 22 PB.7/UART1_nCTS, 23 LDO_CAP, 24 VDD, 25 VSS, 26 PE.8, 27 PE.7, 28 USB_VBUS, 29 USB_VDD33_CAP, 30 USB_D-, 31 USB_D+, 32 PB.0/UART0_RXD, 33 PB.1/UART0_TXD, 34 PB.2/UART0_nRTS/TM2_EXT/ACMP0_O, 35 PB.3/UART0_nCTS/TM3_EXT/SC2_CD, 36 PD.6, 37 PD.7, 38 PD.14/UART2_RXD, 39 PD.15/UART2_TXD, 40 PC.5/SPI0_MOSI1, 41 PC.4/SPI0_MISO1, 42 PC.3/SPI0_MOSI0/I2S_DO, 43 PC.2/SPI0_MISO0/I2S_DI, 44 PC.1/SPI0_CLK/I2S_BCLK, 45 PC.0/SPI0_SS0/I2S_LRCLK, 46 PE.6, 47 PE.5/PWM5/TM1_EXT, 48 PB.11/TM3/PWM4, 49 PB.10/TM2/SPI0_SS1, 50 PB.9/TM1/SPI1_SS1, 51 PE.4, 52 PE.3, 53 PE.2, 54 PE.1/PWM7, 55 PE.0/PWM6, 56 PC.13/SPI1_MOSI1, 57 PC.12/SPI1_MISO1, 58 PC.11/SPI1_MOSI0, 59 PC.10/SPI1_MISO0, 60 PC.9/SPI1_CLK, 61 PC.8/SPI1_SS0, 62 PA.15/PWM3/I2S_MCLK/SC2_PWR, 63 PA.14/PWM2/SC2_RST, 64 PA.13/PWM1/SC2_CLK, 65 PA.12/PWM0/SC2_DAT, 66 ICE_DAT, 67 ICE_CLK, 68 VDD, 69 VSS, 70 AVSS, 71 PA.0/ADC0/SC0_PWR, 72 PA.1/ADC1/SC0_RST, 73 PA.2/ADC2/SC0_CLK, 74 PA.3/ADC3/SC0_DAT, 75 PA.4/ADC4/SC1_PWR, 76 PA.5/ADC5/SC1_RST, 77 PA.6/ADC6/SC1_CLK, 78 PA.7/ADC7/SPI2_SS1/SC1_DAT, 79 VREF, 80 AVDD, 81 PD.0/SPI2_SS0, 82 PD.1/SPI2_CLK, 83 PD.2/SPI2_MISO0, 84 PD.3/SPI2_MOSI0, 85 PD.4/SPI2_MISO1, 86 PD.5/SPI2_MOSI1, 87 PC.7/ACMP0_N/SC1_CD, 88 PC.6/ACMP0_P/SC0_CD, 89 PC.15/ACMP1_N, 90 PC.14/ACMP1_P, 91 PB.15/INT1/TM0_EXT, 92 XT1_OUT/PF.0, 93 XT1_IN/PF.1, 94 nRESET, 95 VSS, 96 VDD, 97 PF.2/PS2_DAT, 98 PF.3/PS2_CLK, 99 PVSS, 100 PB.8/TM0/STADC/CLKO
2 alternate drawings of the same symbol